# Altium integrated library SRD-05VDC.IntLib: 1 symbol
Pins are listed as number, name and electrical type; pins without a type are passive.

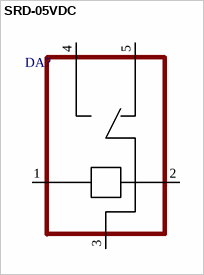
[diagram p0: symbol SRD-05VDC]

## SRD-05VDC
designator DA?
footprint SRD-05VDC
pins: 1 ANODE, 2 CATHODE, 3 EMITTER, 4 COLLECTOR, 5 COLLECTOR